# EAGLE library part TA7250/51BP (library Audio-Power-amlifier V.2.0)
30W BTL Audio Power Amplifier of Toshiba Bipolar Linear.
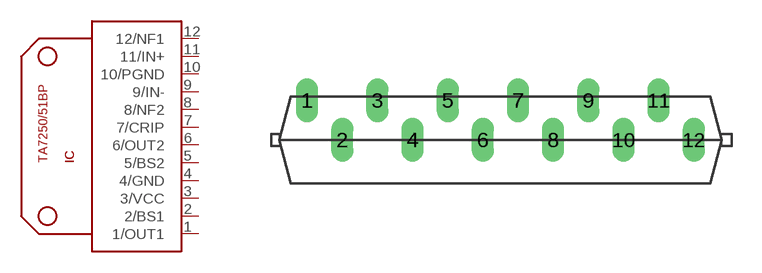
[diagram p63: symbol with the pads of HZIP12-P-1,78B; footprint HZIP12-P-1,78B]

Designator prefix IC

## TA7250/51BP  [HZIP12-P-1,78B]
1  1/OUT1  out
2  2/BS1
3  3/VCC  pwr
4  4/GND  pwr
5  5/BS2
6  6/OUT2  out
7  7/CRIP
8  8/NF2
9  9/IN-  in
10  10/PGND  pwr
11  11/IN+  in
12  12/NF1

## Footprint HZIP12-P-1,78B (pad centres in mm)
drill 0.6 pad 1.016 long: 1 -9.779,2; 2 -8.001,0; 3 -6.223,2; 4 -4.445,0; 5 -2.667,2; 6 -0.889,0; 7 0.889,2; 8 2.667,0; 9 4.445,2; 10 6.223,0; 11 8.001,2; 12 9.779,0